# Altium integrated library WP7113GD.IntLib: 1 symbol
Pins are listed as number, name and electrical type; pins without a type are passive.

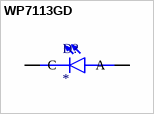
[diagram p0: symbol WP7113GD]

## WP7113GD
designator D?
Green 568nm LED Indication - Discrete 2.2V Radial; MF: Kingbright; MP: WP7113GD; SnapEDA_Link: https://www.snapeda.com/parts/WP7113GD/Kingbright/view-part/?ref=snap; Package: Radial Kingbright; Value: *; Check_prices: https://www.snapeda.com/parts/WP7113GD/Kingbright/view-part/?ref=eda
footprint LED_WP7113GD
pins: A, C